# Altium schematic symbol library ICs-AnalogSwitches.SchLib: 1 symbol
Pins are listed as number, name and electrical type; pins without a type are passive.

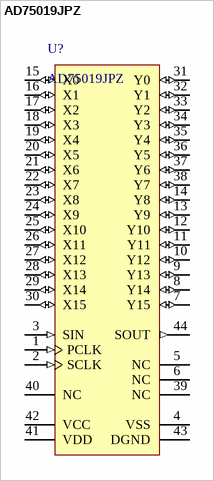
[diagram p0: symbol AD75019JPZ]

## AD75019JPZ
designator U?
Analog & Digital Crosspoint ICs 256 Analog Switches in a 16x16 Array; Manufacturer: Analog Devices; Output Buffer: No; Control Interface: Serial; Packing: Tube; Small Signal BW (MHz): 20; Slew Rate (V/us): n / a; Supply Voltage (V): +/-12; ComponentLink3URL: http://www.analog.com/static/imported-files/packages/533756178731793364534243243792136664964P44A.pdf; PackageReference: P-44A; ComponentLink3Description: Package Specification; DatasheetVersion: Rev. C; PackageDescription: 44-Pin Plastic Leaded Chip Carrier, Body 16.59 x 16.59 mm, Pitch 1.27 mm; ComponentLink2Description: Datasheet; Code_JEDEC: MO-047AC; PackageVersion: Jan-03; ComponentLink1Description: Manufacturer URL; ComponentLink2URL: http://www.analog.com/static/imported-files/data_sheets/AD75019.pdf; PartNumber: AD75019JPZ; Mounting Technology: Surface Mount; ComponentLink1URL: http://www.analog.com/en/index.html
footprint PLCC-44 (Leaded Chip Carrier, 44-Leads, Body 17.53x17.53mm, Pitch 1.270mm, IPC Medium Density)
pins: 1 PCLK (in) "Parallel Clock Input", 2 SCLK (in) "Serial Clock Input", 3 SIN (in) "Serial Data Input", 4 VSS (power) "Negative Analog Power Supply", 5 NC "No Internal Connection", 6 NC "No Internal Connection", 7 Y15 (io) "Analog Output (or Input)", 8 Y14 (io) "Analog Output (or Input)", 9 Y13 (io) "Analog Output (or Input)", 10 Y12 (io) "Analog Output (or Input)", 11 Y11 (io) "Analog Output (or Input)", 12 Y10 (io) "Analog Output (or Input)", 13 Y9 (io) "Analog Output (or Input)", 14 Y8 (io) "Analog Output (or Input)", 15 X0 (io) "Analog Input (or Output)", 16 X1 (io) "Analog Input (or Output)", 17 X2 (io) "Analog Input (or Output)", 18 X3 (io) "Analog Input (or Output)", 19 X4 (io) "Analog Input (or Output)", 20 X5 (io) "Analog Input (or Output)", 21 X6 (io) "Analog Input (or Output)", 22 X7 (io) "Analog Input (or Output)", 23 X8 (io) "Analog Input (or Output)", 24 X9 (io) "Analog Input (or Output)", 25 X10 (io) "Analog Input (or Output)", 26 X11 (io) "Analog Input (or Output)", 27 X12 (io) "Analog Input (or Output)", 28 X13 (io) "Analog Input (or Output)", 29 X14 (io) "Analog Output (or Input)", 30 X15 (io) "Analog Output (or Input)", 31 Y0 (io) "Analog Output (or Input)", 32 Y1 (io) "Analog Output (or Input)", 33 Y2 (io) "Analog Output (or Input)", 34 Y3 (io) "Analog Output (or Input)", 35 Y4 (io) "Analog Output (or Input)", 36 Y5 (io) "Analog Output (or Input)", 37 Y6 (io) "Analog Output (or Input)", 38 Y7 (io) "Analog Output (or Input)", 39 NC "No Internal Connection", 40 NC "No Internal Connection", 41 VDD (power) "Positive Analog Power Supply", 42 VCC (power) "Digital Power Supply", 43 DGND (power) "Digital Ground", 44 SOUT (out) "Serial Data Output: Positive True"